# Altium schematic symbol library Actuators.SchLib: 10 symbols
Pins are listed as number, name and electrical type; pins without a type are passive.

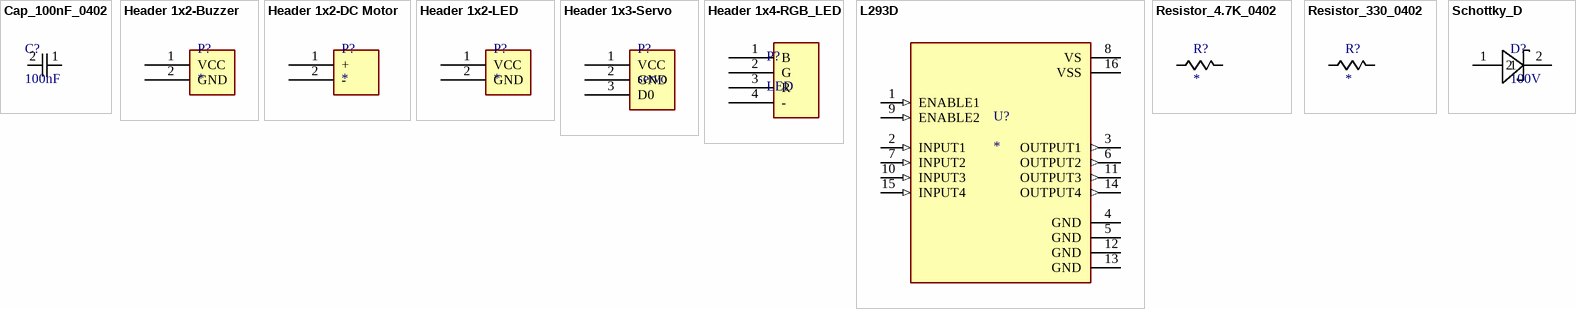
[diagram p0: symbols Cap_100nF_0402 to Schottky_D]

## Cap_100nF_0402
designator C?, comment 100nF
CAP CER 100nF 16V X7R 0402; Manufacturer: Samsung Electro-Mechanics; Manufacturer Part #: CL05B104KO5NNNC; Supplier: LCSC; Supplier Part#: C1525; ComponentLink1Description: Data Sheet; ComponentLink1URL: https://www.lcsc.com/datasheet/C1525.pdf?spm=wm.sxq.inf.ggs___wm.fly.bg.1.stp&lcsc_vid=T1MKV1cAE1gLBAVfTgIKUgJfTlkPBQBVQlMMBAJURwAxVlNeT1dfVlxVQ1ReXzsOAxUeFF5JWBYZEEoKFBINSQcJGk4%3D
footprint CAPC1005X55N
pins: 1, 2

## Header 1x2-Buzzer
designator P?
SFM-20B Piezo Buzzer Alarm 3-24VDC 95dB 23x12mm is a compact, active piezoelectric alarm buzzer for continuous audible alerts in low‑voltage DC systems.; Supplier: Makers Electronics; Supplier Part#: 3496300135059; ComponentLink1Description: Link; ComponentLink1URL: https://makerselectronics.com/product/sfm-20b-piezo-buzzer-alarm-3-24vdc-95db-23x12mm/
footprint Header 1x2 (2.54mm)
pins: 1 VCC, 2 GND

## Header 1x2-DC Motor
designator P?
Compact OSEPP LS-00027 R280 brushed DC motor. Features 3-6V operation and a 2mm shaft. Ideal for robotics, DIY hobbies, and educational science projects.; Supplier: Makers Electronics; Supplier Part#: 667510001714; ComponentLink1Description: Link; ComponentLink1URL: https://makerselectronics.com/product/osepp-12000-rpm-dc-motor/
footprint Header 1x2 (2.54mm)
pins: 1 +, 2 -

## Header 1x2-LED
designator P?
Round Transparent LED 3mm 2Pin available in blue and red colors is Bright and efficient, ideal for indicators, DIY electronics, and display applications.; Supplier: Makers Electronics; ComponentLink1Description: Link; ComponentLink1URL: https://makerselectronics.com/product/round-transparent-led-3mm-2pin/
footprint Header 1x2 (2.54mm)
pins: 1 VCC, 2 GND

## Header 1x3-Servo
designator P?, comment servo
servo-180-degree/; Supplier: Makers Electronics; Supplier Part#: 300000009139; ComponentLink1Description: Link; ComponentLink1URL: https://makerselectronics.com/product/sg90-micro-servo-180-degree/
footprint HEADER 1x3 MALE (2.54mm)
pins: 1 VCC, 2 GND, 3 D0

## Header 1x4-RGB_LED
designator P?, comment LED
HW-479 is a versatile RGB LED module with PWM control for vibrant color mixing, ideal for Arduino and microcontroller projects.; Supplier: Makers Electronics; Supplier Part#: 5597455270331; ComponentLink1Description: Link; ComponentLink1URL: https://makerselectronics.com/product/hw-479-rgb-led-module/
footprint Header 1x4 male (2.54mm)
pins: 1 B, 2 G, 3 R, 4 -

## L293D
designator U?
Bipolar Motor Driver - Parallel 16-PowerDIP; Manufacturer: ST; Manufacturer Part#: L293D; Supplier: LCSC; Supplier Part#: C12340; ComponentLink1Description: Data Sheet; ComponentLink1URL: https://www.lcsc.com/datasheet/C12340.pdf?spm=wm.sxq.inf.ggs___wm.fly.bg.0.stp&lcsc_vid=QldaXwVWQ1ALVwBSRFNdXlZQFAAIVQZWQQAMUgIAQVkxVlNeT1dWUFZSRlFfVjsOAxUeFF5JWBYZEEoKFBINSQcJGk4%3D
footprint DIP880W50P254L2000H510Q16
pins: 1 ENABLE1 (in), 2 INPUT1 (in), 3 OUTPUT1 (out), 4 GND (power), 5 GND (power), 6 OUTPUT2 (out), 7 INPUT2 (in), 8 VS (power), 9 ENABLE2 (in), 10 INPUT3 (in), 11 OUTPUT3 (out), 12 GND (power), 13 GND (power), 14 OUTPUT4 (out), 15 INPUT4 (in), 16 VSS (power)

## Resistor_4.7K_0402
designator R?
RES 4.7kΩ ±1% 62.5mW 0402; Manufacturer: YAGEO; Manufacturer Part #: RC0402FR-074K7L; Supplier: LCSC; Supplier Part #: C105871; ComponentLink1Description: Data Sheet; ComponentLink1URL: https://www.lcsc.com/datasheet/C105871.pdf?spm=wm.sxq.inf.ggs___wm.fly.bg.0.stp&lcsc_vid=RFcPU1ZSEVdeBFReRgUKAgZXQAMKBQJURFUIAwVSQVgxVlNeT1dXUFZUTldcVjsOAxUeFF5JWBYZEEoKFBINSQcJGk4NBhADEA4cHktXR1BYSQwSGg0%3D
footprint RESC1005X40N
pins: 1, 2

## Resistor_330_0402
designator R?
RES 330Ω ±1% 62.5mW 0402; Manufacturer: YAGEO; Manufacturer Part #: RC0402FR-07330RL; Supplier: LCSC; Supplier Part #: C105875; ComponentLink1Description: Data Sheet; ComponentLink1URL: https://www.lcsc.com/datasheet/C105875.pdf?spm=wm.sxq.inf.ggs___wm.fly.bg.0.stp&lcsc_vid=RFcPU1ZSEVdeBFReRgUKAgZXQAMKBQJURFUIAwVSQVgxVlNeT1dXUFZUTldcVjsOAxUeFF5JWBYZEEoKFBINSQcJGk4NBhADEA4cHktXR1BYSQwSGg0%3D
footprint RESC1005X40N
pins: 1, 2

## Schottky_D
designator D?, comment 100V
100V 850mV@5A 5A SMAG Schottky Diodes ROHS; Manufacturer: Nexperia; Mfr. Part #: BAT54S,215; Splr.part#: C466506; Supplier: LCSC; ComponentLink1Description: New link; ComponentLink1URL: https://www.lcsc.com/product-detail/C466506.html?s_z=n_schottky%2520diode
footprint Schottky.D
pins: 1, 2